# Altium footprint library BGA_Rect.PcbLib: 17 footprints (part 2 of 2)
Each footprint in its own frame and in the unit in brackets; x right, y up, seen from the top. Pads: shape width x height; smd on the part's side, far side on the other; paste and mask are expansions set on the pad; w line width, h text height; cw(c..) or ccw(c..) is an arc to the next point about the centre after c.
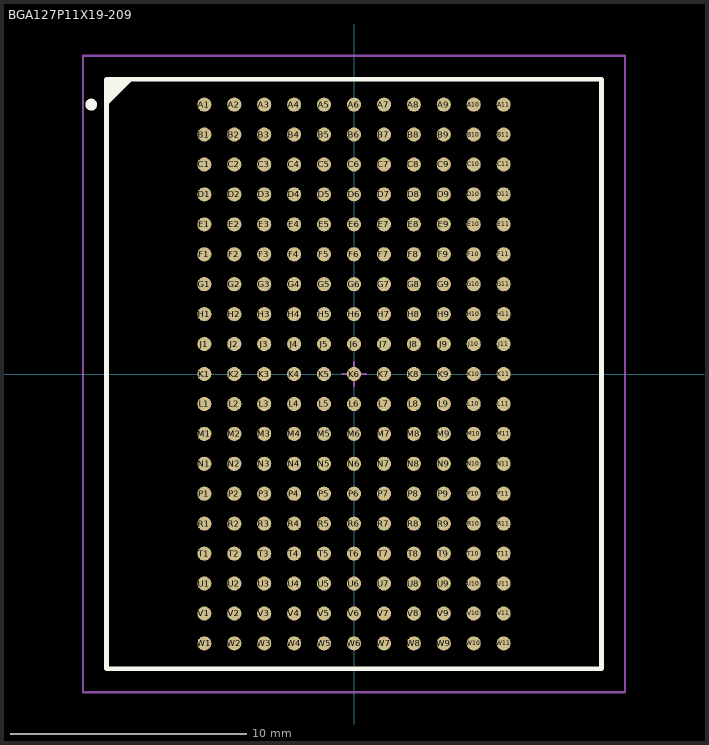
[diagram p1: the footprint, top view; thin cyan lines are the x and y axes]

## BGA127P11X19-209 [mm] "BGA, 209-Leads, Body 25x21mm, Pitch 1.27mm"
height 3.5
pads (209):
  round 0.6 smd: A1(-6.35,11.43) A2(-5.08,11.43) A3(-3.81,11.43) A4(-2.54,11.43) A5(-1.27,11.43) A6(0,11.43) A7(1.27,11.43) A8(2.54,11.43) A9(3.81,11.43) A10(5.08,11.43) A11(6.35,11.43) B1(-6.35,10.16) B2(-5.08,10.16) B3(-3.81,10.16) B4(-2.54,10.16) B5(-1.27,10.16) B6(0,10.16) B7(1.27,10.16) B8(2.54,10.16) B9(3.81,10.16) B10(5.08,10.16) B11(6.35,10.16) C1(-6.35,8.89) C2(-5.08,8.89) C3(-3.81,8.89) C4(-2.54,8.89) C5(-1.27,8.89) C6(0,8.89) C7(1.27,8.89) C8(2.54,8.89) C9(3.81,8.89) C10(5.08,8.89) C11(6.35,8.89) D1(-6.35,7.62) D2(-5.08,7.62) D3(-3.81,7.62) D4(-2.54,7.62) D5(-1.27,7.62) D6(0,7.62) D7(1.27,7.62) D8(2.54,7.62) D9(3.81,7.62) D10(5.08,7.62) D11(6.35,7.62) E1(-6.35,6.35) E2(-5.08,6.35) E3(-3.81,6.35) E4(-2.54,6.35) E5(-1.27,6.35) E6(0,6.35) E7(1.27,6.35) E8(2.54,6.35) E9(3.81,6.35) E10(5.08,6.35) E11(6.35,6.35) F1(-6.35,5.08) F2(-5.08,5.08) F3(-3.81,5.08) F4(-2.54,5.08) F5(-1.27,5.08) F6(0,5.08) F7(1.27,5.08) F8(2.54,5.08) F9(3.81,5.08) F10(5.08,5.08) F11(6.35,5.08) G1(-6.35,3.81) G2(-5.08,3.81) G3(-3.81,3.81) G4(-2.54,3.81) G5(-1.27,3.81) G6(0,3.81) G7(1.27,3.81) G8(2.54,3.81) G9(3.81,3.81) G10(5.08,3.81) G11(6.35,3.81) H1(-6.35,2.54) H2(-5.08,2.54) H3(-3.81,2.54) H4(-2.54,2.54) H5(-1.27,2.54) H6(0,2.54) H7(1.27,2.54) H8(2.54,2.54) H9(3.81,2.54) H10(5.08,2.54) H11(6.35,2.54) J1(-6.35,1.27) J2(-5.08,1.27) J3(-3.81,1.27) J4(-2.54,1.27) J5(-1.27,1.27) J6(0,1.27) J7(1.27,1.27) J8(2.54,1.27) J9(3.81,1.27) J10(5.08,1.27) J11(6.35,1.27) K1(-6.35,0) K2(-5.08,0) K3(-3.81,0) K4(-2.54,0) K5(-1.27,0) K6(0,0) K7(1.27,0) K8(2.54,0) K9(3.81,0) K10(5.08,0) K11(6.35,0) L1(-6.35,-1.27) L2(-5.08,-1.27) L3(-3.81,-1.27) L4(-2.54,-1.27) L5(-1.27,-1.27) L6(0,-1.27) L7(1.27,-1.27) L8(2.54,-1.27) L9(3.81,-1.27) L10(5.08,-1.27) L11(6.35,-1.27) M1(-6.35,-2.54) M2(-5.08,-2.54) M3(-3.81,-2.54) M4(-2.54,-2.54) M5(-1.27,-2.54) M6(0,-2.54) M7(1.27,-2.54) M8(2.54,-2.54) M9(3.81,-2.54) M10(5.08,-2.54) M11(6.35,-2.54) N1(-6.35,-3.81) N2(-5.08,-3.81) N3(-3.81,-3.81) N4(-2.54,-3.81) N5(-1.27,-3.81) N6(0,-3.81) N7(1.27,-3.81) N8(2.54,-3.81) N9(3.81,-3.81) N10(5.08,-3.81) N11(6.35,-3.81) P1(-6.35,-5.08) P2(-5.08,-5.08) P3(-3.81,-5.08) P4(-2.54,-5.08) P5(-1.27,-5.08) P6(0,-5.08) P7(1.27,-5.08) P8(2.54,-5.08) P9(3.81,-5.08) P10(5.08,-5.08) P11(6.35,-5.08) R1(-6.35,-6.35) R2(-5.08,-6.35) R3(-3.81,-6.35) R4(-2.54,-6.35) R5(-1.27,-6.35) R6(0,-6.35) R7(1.27,-6.35) R8(2.54,-6.35) R9(3.81,-6.35) R10(5.08,-6.35) R11(6.35,-6.35) T1(-6.35,-7.62) T2(-5.08,-7.62) T3(-3.81,-7.62) T4(-2.54,-7.62) T5(-1.27,-7.62) T6(0,-7.62) T7(1.27,-7.62) T8(2.54,-7.62) T9(3.81,-7.62) T10(5.08,-7.62) T11(6.35,-7.62) U1(-6.35,-8.89) U2(-5.08,-8.89) U3(-3.81,-8.89) U4(-2.54,-8.89) U5(-1.27,-8.89) U6(0,-8.89) U7(1.27,-8.89) U8(2.54,-8.89) U9(3.81,-8.89) U10(5.08,-8.89) U11(6.35,-8.89) V1(-6.35,-10.16) V2(-5.08,-10.16) V3(-3.81,-10.16) V4(-2.54,-10.16) V5(-1.27,-10.16) V6(0,-10.16) V7(1.27,-10.16) V8(2.54,-10.16) V9(3.81,-10.16) V10(5.08,-10.16) V11(6.35,-10.16) W1(-6.35,-11.43) W2(-5.08,-11.43) W3(-3.81,-11.43) W4(-2.54,-11.43) W5(-1.27,-11.43) W6(0,-11.43) W7(1.27,-11.43) W8(2.54,-11.43) W9(3.81,-11.43) W10(5.08,-11.43) W11(6.35,-11.43)
Top Overlay:
  circle w0.25: c-11.15,11.43 r0.125
  region: -9.5,12.5 -10.5,11.5 -10.5,12.5
  lines w0.2: -10.5,11.5 -9.5,12.5 ; -10.5,-12.5 -10.5,12.5 10.5,12.5 10.5,-12.5 -10.5,-12.5
Mechanical 13:
  lines w0.1: -10.5,-12.5 -10.5,12.5 10.5,12.5 10.5,-12.5 -10.5,-12.5
Mechanical 15:
  lines w0.1: -0.5,0 0.5,0 ; 0,-0.5 0,0.5 ; -11.5,-13.5 -11.5,13.5 11.5,13.5 11.5,-13.5 -11.5,-13.5
3D body: height 3.5, standoff 0, extent -10.5,-12.5 10.5,12.5